# Altium footprint library Analog Devices MEMS Inertial Sensors.PcbLib: 29 footprints (part 2 of 2)
Each footprint in its own frame and in the unit in brackets; x right, y up, seen from the top. Pads: shape width x height; smd on the part's side, far side on the other; paste and mask are expansions set on the pad; w line width, h text height; cw(c..) or ccw(c..) is an arc to the next point about the centre after c.
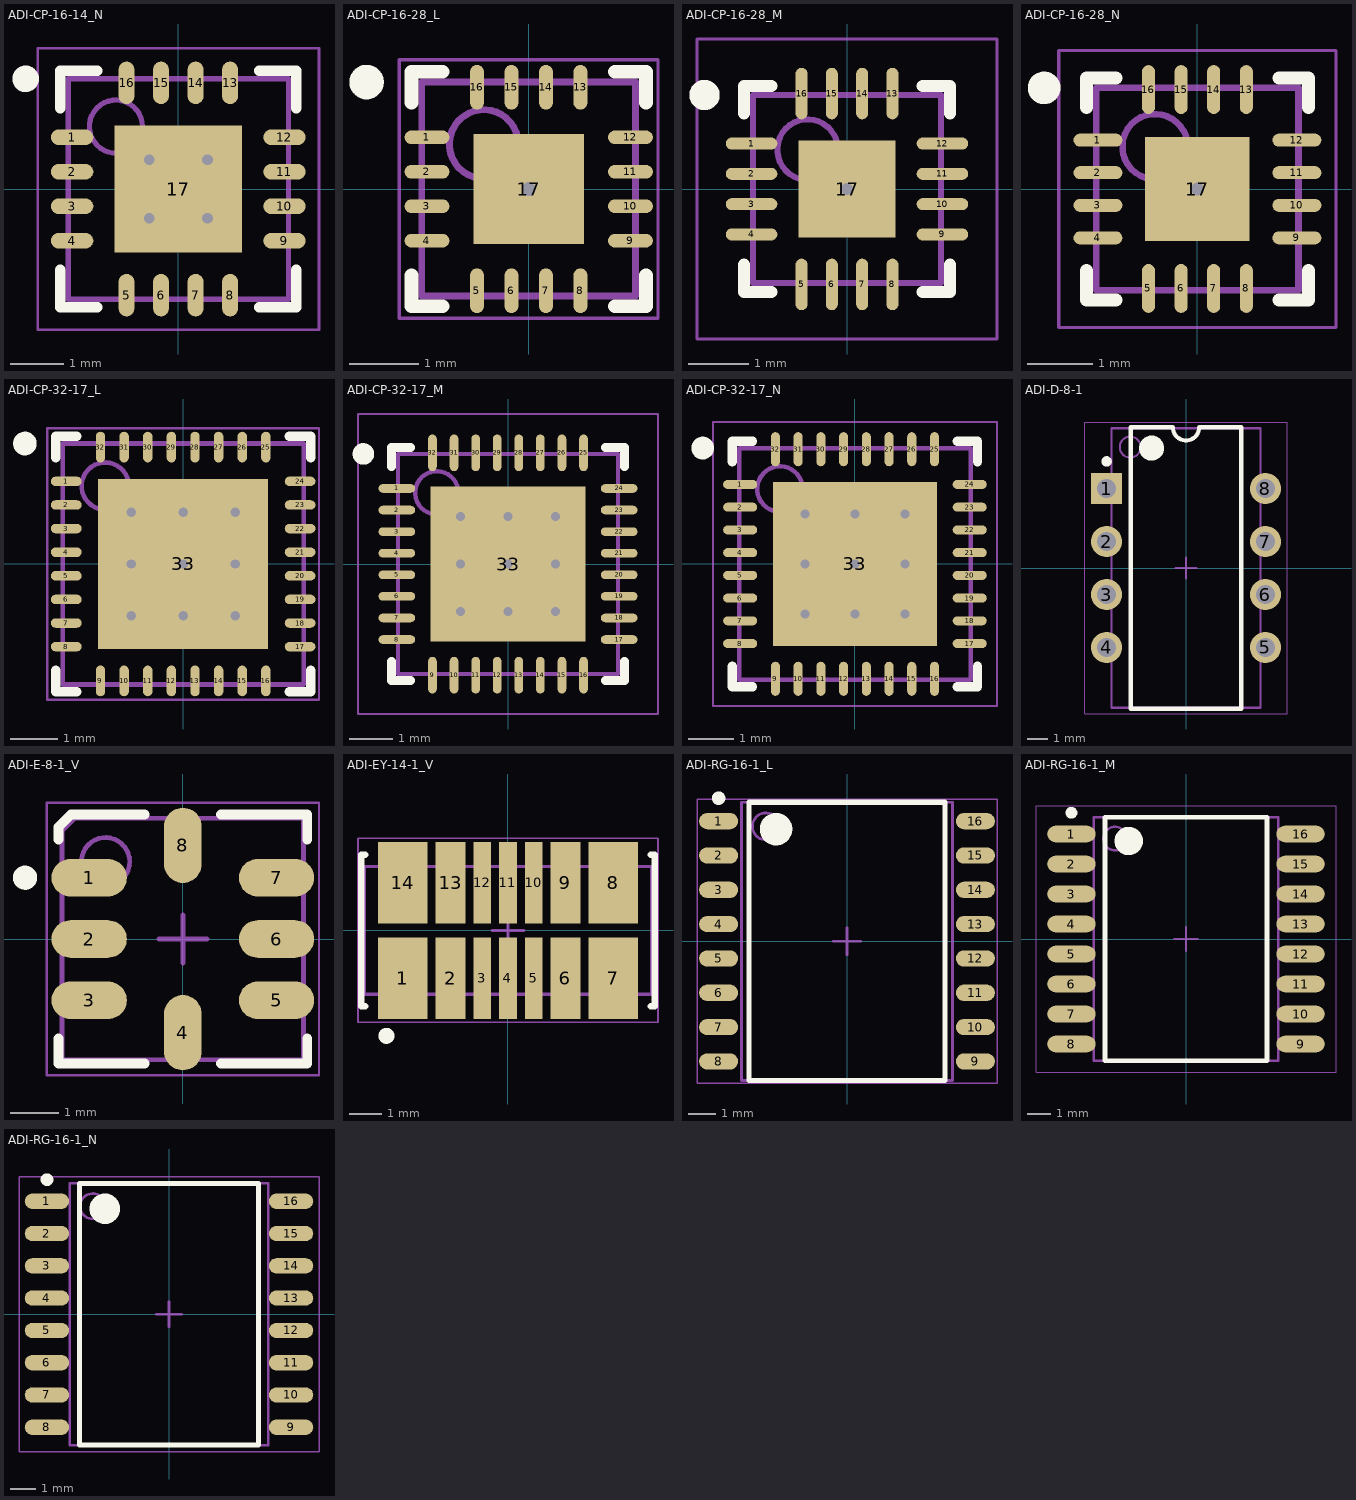
[diagram p1: the footprints below, top view; thin cyan lines are the x and y axes]

## ADI-CP-16-14_N [mm] "QFN, 16-Leads, Body 4x4mm, Pitch 0.65mm, Thermal Pad 2.4x2.4mm, IPC Medium Density"
height 1.5
pads (17):
  oval 0.8x0.3 smd: 1(-2,0.975) 2(-2,0.325) 3(-2,-0.325) 4(-2,-0.975) 9(2,-0.975) 10(2,-0.325) 11(2,0.325) 12(2,0.975)
  oval 0.3x0.8 smd: 5(-0.975,-2) 6(-0.325,-2) 7(0.325,-2) 8(0.975,-2) 13(0.975,2) 14(0.325,2) 15(-0.325,2) 16(-0.975,2)
  rect 2.4x2.4 smd: 17(0,0)
via -0.55,0.55 diameter 0.5 hole 0.2
via 0.55,0.55 diameter 0.5 hole 0.2
via -0.55,-0.55 diameter 0.5 hole 0.2
via 0.55,-0.55 diameter 0.5 hole 0.2
Top Overlay:
  circle w0.25: c-2.875,2.075 r0.125
  lines w0.2: -2.225,-1.525 -2.225,-2.225 -1.525,-2.225 ; -2.225,1.525 -2.225,2.225 -1.525,2.225 ; 1.525,-2.225 2.225,-2.225 2.225,-1.525 ; 1.525,2.225 2.225,2.225 2.225,1.525
Mechanical 13:
  circle w0.1: c-1.175,1.175 r0.5
  lines w0.1: -2.075,-2.075 -2.075,2.075 2.075,2.075 2.075,-2.075 -2.075,-2.075
Mechanical 15:
  lines w0.05: -2.65,-2.65 -2.65,2.65 2.65,2.65 2.65,-2.65 -2.65,-2.65
  lines w0.1: -0.5,0 0.5,0 ; 0,-0.5 0,0.5
3D body: height 1.5, standoff 0, extent -2.075,-2.075 2.075,2.075

## ADI-CP-16-28_L [mm] "QFN, 16-Leads, Body 3x3mm, Pitch 0.5mm, Thermal Pad 1.6x1.6mm, IPC High Density"
height 1.5
pads (17):
  oval 0.65x0.2 smd: 1(-1.475,0.75) 2(-1.475,0.25) 3(-1.475,-0.25) 4(-1.475,-0.75) 9(1.475,-0.75) 10(1.475,-0.25) 11(1.475,0.25) 12(1.475,0.75)
  oval 0.2x0.65 smd: 5(-0.75,-1.475) 6(-0.25,-1.475) 7(0.25,-1.475) 8(0.75,-1.475) 13(0.75,1.475) 14(0.25,1.475) 15(-0.25,1.475) 16(-0.75,1.475)
  rect 1.6x1.6 smd: 17(0,0)
via 0,0 diameter 0.5 hole 0.2
Top Overlay:
  circle w0.25: c-2.35,1.55 r0.125
  lines w0.2: -1.7,-1.25 -1.7,-1.7 -1.25,-1.7 ; -1.7,1.25 -1.7,1.7 -1.25,1.7 ; 1.25,-1.7 1.7,-1.7 1.7,-1.25 ; 1.25,1.7 1.7,1.7 1.7,1.25
Mechanical 13:
  circle w0.1: c-0.65,0.65 r0.5
  lines w0.1: -1.55,-1.55 -1.55,1.55 1.55,1.55 1.55,-1.55 -1.55,-1.55
Mechanical 15:
  lines w0.05: -1.875,-1.875 -1.875,1.875 1.875,1.875 1.875,-1.875 -1.875,-1.875
  lines w0.1: -0.5,0 0.5,0 ; 0,-0.5 0,0.5
3D body: height 1.5, standoff 0, extent -1.55,-1.55 1.55,1.55

## ADI-CP-16-28_M [mm] "QFN, 16-Leads, Body 3x3mm, Pitch 0.5mm, Thermal Pad 1.6x1.6mm, IPC Low Density"
height 1.5
pads (17):
  oval 0.85x0.2 smd: 1(-1.575,0.75) 2(-1.575,0.25) 3(-1.575,-0.25) 4(-1.575,-0.75) 9(1.575,-0.75) 10(1.575,-0.25) 11(1.575,0.25) 12(1.575,0.75)
  oval 0.2x0.85 smd: 5(-0.75,-1.575) 6(-0.25,-1.575) 7(0.25,-1.575) 8(0.75,-1.575) 13(0.75,1.575) 14(0.25,1.575) 15(-0.25,1.575) 16(-0.75,1.575)
  rect 1.6x1.6 smd: 17(0,0)
via 0,0 diameter 0.5 hole 0.2
Top Overlay:
  circle w0.25: c-2.35,1.55 r0.125
  lines w0.2: -1.7,-1.25 -1.7,-1.7 -1.25,-1.7 ; -1.7,1.25 -1.7,1.7 -1.25,1.7 ; 1.25,-1.7 1.7,-1.7 1.7,-1.25 ; 1.25,1.7 1.7,1.7 1.7,1.25
Mechanical 13:
  circle w0.1: c-0.65,0.65 r0.5
  lines w0.1: -1.55,-1.55 -1.55,1.55 1.55,1.55 1.55,-1.55 -1.55,-1.55
Mechanical 15:
  lines w0.05: -2.475,-2.475 -2.475,2.475 2.475,2.475 2.475,-2.475 -2.475,-2.475
  lines w0.1: -0.5,0 0.5,0 ; 0,-0.5 0,0.5
3D body: height 1.5, standoff 0, extent -1.55,-1.55 1.55,1.55

## ADI-CP-16-28_N [mm] "QFN, 16-Leads, Body 3x3mm, Pitch 0.5mm, Thermal Pad 1.6x1.6mm, IPC Medium Density"
height 1.5
pads (17):
  oval 0.75x0.2 smd: 1(-1.525,0.75) 2(-1.525,0.25) 3(-1.525,-0.25) 4(-1.525,-0.75) 9(1.525,-0.75) 10(1.525,-0.25) 11(1.525,0.25) 12(1.525,0.75)
  oval 0.2x0.75 smd: 5(-0.75,-1.525) 6(-0.25,-1.525) 7(0.25,-1.525) 8(0.75,-1.525) 13(0.75,1.525) 14(0.25,1.525) 15(-0.25,1.525) 16(-0.75,1.525)
  rect 1.6x1.6 smd: 17(0,0)
via 0,0 diameter 0.5 hole 0.2
Top Overlay:
  circle w0.25: c-2.35,1.55 r0.125
  lines w0.2: -1.7,-1.25 -1.7,-1.7 -1.25,-1.7 ; -1.7,1.25 -1.7,1.7 -1.25,1.7 ; 1.25,-1.7 1.7,-1.7 1.7,-1.25 ; 1.25,1.7 1.7,1.7 1.7,1.25
Mechanical 13:
  circle w0.1: c-0.65,0.65 r0.5
  lines w0.1: -1.55,-1.55 -1.55,1.55 1.55,1.55 1.55,-1.55 -1.55,-1.55
Mechanical 15:
  lines w0.05: -2.125,-2.125 -2.125,2.125 2.125,2.125 2.125,-2.125 -2.125,-2.125
  lines w0.1: -0.5,0 0.5,0 ; 0,-0.5 0,0.5
3D body: height 1.5, standoff 0, extent -1.55,-1.55 1.55,1.55

## ADI-CP-32-17_L [mm] "QFN, 32-Leads, Body 5x5mm, Pitch 0.5mm, Thermal Pad 3.6x3.6mm, IPC High Density"
height 1.55
pads (33):
  oval 0.65x0.2 smd: 1(-2.475,1.75) 2(-2.475,1.25) 3(-2.475,0.75) 4(-2.475,0.25) 5(-2.475,-0.25) 6(-2.475,-0.75) 7(-2.475,-1.25) 8(-2.475,-1.75) 17(2.475,-1.75) 18(2.475,-1.25) 19(2.475,-0.75) 20(2.475,-0.25) 21(2.475,0.25) 22(2.475,0.75) 23(2.475,1.25) 24(2.475,1.75)
  oval 0.2x0.65 smd: 9(-1.75,-2.475) 10(-1.25,-2.475) 11(-0.75,-2.475) 12(-0.25,-2.475) 13(0.25,-2.475) 14(0.75,-2.475) 15(1.25,-2.475) 16(1.75,-2.475) 25(1.75,2.475) 26(1.25,2.475) 27(0.75,2.475) 28(0.25,2.475) 29(-0.25,2.475) 30(-0.75,2.475) 31(-1.25,2.475) 32(-1.75,2.475)
  rect 3.6x3.6 smd: 33(0,0)
via -1.1,1.1 diameter 0.5 hole 0.2
via 0,1.1 diameter 0.5 hole 0.2
via 1.1,1.1 diameter 0.5 hole 0.2
via -1.1,0 diameter 0.5 hole 0.2
via 0,0 diameter 0.5 hole 0.2
via 1.1,0 diameter 0.5 hole 0.2
via -1.1,-1.1 diameter 0.5 hole 0.2
via 0,-1.1 diameter 0.5 hole 0.2
via 1.1,-1.1 diameter 0.5 hole 0.2
Top Overlay:
  circle w0.25: c-3.35,2.55 r0.125
  lines w0.2: -2.7,-2.25 -2.7,-2.7 -2.25,-2.7 ; -2.7,2.25 -2.7,2.7 -2.25,2.7 ; 2.25,-2.7 2.7,-2.7 2.7,-2.25 ; 2.25,2.7 2.7,2.7 2.7,2.25
Mechanical 13:
  circle w0.1: c-1.65,1.65 r0.5
  lines w0.1: -2.55,-2.55 -2.55,2.55 2.55,2.55 2.55,-2.55 -2.55,-2.55
Mechanical 15:
  lines w0.05: -2.875,-2.875 -2.875,2.875 2.875,2.875 2.875,-2.875 -2.875,-2.875
  lines w0.1: -0.5,0 0.5,0 ; 0,-0.5 0,0.5
3D body: height 1.55, standoff 0, extent -2.55,-2.55 2.55,2.55

## ADI-CP-32-17_M [mm] "QFN, 32-Leads, Body 5x5mm, Pitch 0.5mm, Thermal Pad 3.6x3.6mm, IPC Low Density"
height 1.55
pads (33):
  oval 0.85x0.2 smd: 1(-2.575,1.75) 2(-2.575,1.25) 3(-2.575,0.75) 4(-2.575,0.25) 5(-2.575,-0.25) 6(-2.575,-0.75) 7(-2.575,-1.25) 8(-2.575,-1.75) 17(2.575,-1.75) 18(2.575,-1.25) 19(2.575,-0.75) 20(2.575,-0.25) 21(2.575,0.25) 22(2.575,0.75) 23(2.575,1.25) 24(2.575,1.75)
  oval 0.2x0.85 smd: 9(-1.75,-2.575) 10(-1.25,-2.575) 11(-0.75,-2.575) 12(-0.25,-2.575) 13(0.25,-2.575) 14(0.75,-2.575) 15(1.25,-2.575) 16(1.75,-2.575) 25(1.75,2.575) 26(1.25,2.575) 27(0.75,2.575) 28(0.25,2.575) 29(-0.25,2.575) 30(-0.75,2.575) 31(-1.25,2.575) 32(-1.75,2.575)
  rect 3.6x3.6 smd: 33(0,0)
via -1.1,1.1 diameter 0.5 hole 0.2
via 0,1.1 diameter 0.5 hole 0.2
via 1.1,1.1 diameter 0.5 hole 0.2
via -1.1,0 diameter 0.5 hole 0.2
via 0,0 diameter 0.5 hole 0.2
via 1.1,0 diameter 0.5 hole 0.2
via -1.1,-1.1 diameter 0.5 hole 0.2
via 0,-1.1 diameter 0.5 hole 0.2
via 1.1,-1.1 diameter 0.5 hole 0.2
Top Overlay:
  circle w0.25: c-3.35,2.55 r0.125
  lines w0.2: -2.7,-2.25 -2.7,-2.7 -2.25,-2.7 ; -2.7,2.25 -2.7,2.7 -2.25,2.7 ; 2.25,-2.7 2.7,-2.7 2.7,-2.25 ; 2.25,2.7 2.7,2.7 2.7,2.25
Mechanical 13:
  circle w0.1: c-1.65,1.65 r0.5
  lines w0.1: -2.55,-2.55 -2.55,2.55 2.55,2.55 2.55,-2.55 -2.55,-2.55
Mechanical 15:
  lines w0.05: -3.475,-3.475 -3.475,3.475 3.475,3.475 3.475,-3.475 -3.475,-3.475
  lines w0.1: -0.5,0 0.5,0 ; 0,-0.5 0,0.5
3D body: height 1.55, standoff 0, extent -2.55,-2.55 2.55,2.55

## ADI-CP-32-17_N [mm] "QFN, 32-Leads, Body 5x5mm, Pitch 0.5mm, Thermal Pad 3.6x3.6mm, IPC Medium Density"
height 1.55
pads (33):
  oval 0.75x0.2 smd: 1(-2.525,1.75) 2(-2.525,1.25) 3(-2.525,0.75) 4(-2.525,0.25) 5(-2.525,-0.25) 6(-2.525,-0.75) 7(-2.525,-1.25) 8(-2.525,-1.75) 17(2.525,-1.75) 18(2.525,-1.25) 19(2.525,-0.75) 20(2.525,-0.25) 21(2.525,0.25) 22(2.525,0.75) 23(2.525,1.25) 24(2.525,1.75)
  oval 0.2x0.75 smd: 9(-1.75,-2.525) 10(-1.25,-2.525) 11(-0.75,-2.525) 12(-0.25,-2.525) 13(0.25,-2.525) 14(0.75,-2.525) 15(1.25,-2.525) 16(1.75,-2.525) 25(1.75,2.525) 26(1.25,2.525) 27(0.75,2.525) 28(0.25,2.525) 29(-0.25,2.525) 30(-0.75,2.525) 31(-1.25,2.525) 32(-1.75,2.525)
  rect 3.6x3.6 smd: 33(0,0)
via -1.1,1.1 diameter 0.5 hole 0.2
via 0,1.1 diameter 0.5 hole 0.2
via 1.1,1.1 diameter 0.5 hole 0.2
via -1.1,0 diameter 0.5 hole 0.2
via 0,0 diameter 0.5 hole 0.2
via 1.1,0 diameter 0.5 hole 0.2
via -1.1,-1.1 diameter 0.5 hole 0.2
via 0,-1.1 diameter 0.5 hole 0.2
via 1.1,-1.1 diameter 0.5 hole 0.2
Top Overlay:
  circle w0.25: c-3.35,2.55 r0.125
  lines w0.2: -2.7,-2.25 -2.7,-2.7 -2.25,-2.7 ; -2.7,2.25 -2.7,2.7 -2.25,2.7 ; 2.25,-2.7 2.7,-2.7 2.7,-2.25 ; 2.25,2.7 2.7,2.7 2.7,2.25
Mechanical 13:
  circle w0.1: c-1.65,1.65 r0.5
  lines w0.1: -2.55,-2.55 -2.55,2.55 2.55,2.55 2.55,-2.55 -2.55,-2.55
Mechanical 15:
  lines w0.05: -3.125,-3.125 -3.125,3.125 3.125,3.125 3.125,-3.125 -3.125,-3.125
  lines w0.1: -0.5,0 0.5,0 ; 0,-0.5 0,0.5
3D body: height 1.55, standoff 0, extent -2.55,-2.55 2.55,2.55

## ADI-D-8-1 [mm] "DIP, 8-Leads, Body 13.208x7.366mm, Pitch 2.54mm"
height 3.31
pads (8):
  rect 1.5x1.5 hole 0.9: 1(-3.81,3.81)
  round 1.5 hole 0.9: 2(-3.81,1.27) 3(-3.81,-1.27) 4(-3.81,-3.81) 5(3.81,-3.81) 6(3.81,-1.27) 7(3.81,1.27) 8(3.81,3.81)
Top Overlay:
  circle w0.6: c-1.65,5.75 r0.3
  circle w0.25: c-3.81,5.11 r0.125
  lines w0.2: -2.65,-6.75 2.65,-6.75 2.65,6.75 0.635,6.75 cw(c0,6.75) -0.635,6.75 -2.65,6.75 -2.65,-6.75
Mechanical 13:
  circle w0.1: c-2.675,5.8 r0.5
  lines w0.1: -3.575,-6.7 3.575,-6.7 3.575,6.7 -3.575,6.7 -3.575,-6.7
Mechanical 15:
  lines w0.05: -4.85,-7 4.85,-7 4.85,7 -4.85,7 -4.85,-7
  lines w0.1: -0.5,0 0.5,0 ; 0,-0.5 0,0.5
3D body: height 3.31, standoff 0.64, extent -3.575,-6.7 3.575,6.7
3D body: height 0, standoff -1.6, extent 3.675,3.45 3.945,4.17
3D body: height 2.11, standoff 1.83, extent 3.575,3.31 3.945,4.31
3D body: height 1.84, standoff 0, extent 3.675,3.31 3.945,4.31
3D body: height 0, standoff -1.6, extent 3.675,0.91 3.945,1.63
3D body: height 2.11, standoff 1.83, extent 3.575,0.77 3.945,1.77
3D body: height 1.84, standoff 0, extent 3.675,0.77 3.945,1.77
3D body: height 0, standoff -1.6, extent 3.675,-1.63 3.945,-0.91
3D body: height 2.11, standoff 1.83, extent 3.575,-1.77 3.945,-0.77
3D body: height 1.84, standoff 0, extent 3.675,-1.77 3.945,-0.77
3D body: height 0, standoff -1.6, extent 3.675,-4.17 3.945,-3.45
3D body: height 2.11, standoff 1.83, extent 3.575,-4.31 3.945,-3.31
3D body: height 1.84, standoff 0, extent 3.675,-4.31 3.945,-3.31
3D body: height 0, standoff -1.6, extent -3.945,-4.17 -3.675,-3.45
3D body: height 2.11, standoff 1.83, extent -3.945,-4.31 -3.575,-3.31
3D body: height 1.84, standoff 0, extent -3.945,-4.31 -3.675,-3.31
3D body: height 0, standoff -1.6, extent -3.945,-1.63 -3.675,-0.91
3D body: height 2.11, standoff 1.83, extent -3.945,-1.77 -3.575,-0.77
3D body: height 1.84, standoff 0, extent -3.945,-1.77 -3.675,-0.77
3D body: height 0, standoff -1.6, extent -3.945,0.91 -3.675,1.63
3D body: height 2.11, standoff 1.83, extent -3.945,0.77 -3.575,1.77
3D body: height 1.84, standoff 0, extent -3.945,0.77 -3.675,1.77
3D body: height 0, standoff -1.6, extent -3.945,3.45 -3.675,4.17
3D body: height 2.11, standoff 1.83, extent -3.945,3.31 -3.575,4.31
3D body: height 1.84, standoff 0, extent -3.945,3.31 -3.675,4.31

## ADI-E-8-1_V [mm] "LCC, 8-Leads, Body 5x5mm, Pitch 1.27mm"
height 2.21
pads (8):
  oval 1.56x0.78 smd: 1(-1.94,1.27) 2(-1.94,0) 3(-1.94,-1.27) 5(1.94,-1.27) 6(1.94,0) 7(1.94,1.27)
  oval 0.78x1.56 smd: 4(0,-1.94) 8(0,1.94)
Top Overlay:
  circle w0.25: c-3.27,1.27 r0.125
  lines w0.2: -2.578,-2.06 -2.578,-2.578 -0.79,-2.578 ; -2.578,2.06 -2.578,2.319 -2.319,2.578 -0.79,2.578 ; 0.79,-2.578 2.578,-2.578 2.578,-2.06 ; 0.79,2.578 2.578,2.578 2.578,2.06
Mechanical 13:
  circle w0.1: c-1.602,1.602 r0.5
  lines w0.1: -2.502,-2.502 2.502,-2.502 2.502,2.502 -2.243,2.502 -2.502,2.243 -2.502,-2.502
Mechanical 15:
  lines w0.05: -2.82,-2.82 2.82,-2.82 2.82,2.82 -2.82,2.82 -2.82,-2.82
  lines w0.1: -0.5,0 0.5,0 ; 0,-0.5 0,0.5
3D body: height 2.21, standoff 0, extent -2.502,-2.502 2.502,2.502

## ADI-EY-14-1_V [mm] "LCC, 14-Leads, Body 4x9mm"
height 9.15
pads (14):
  rect 1.55x2.55 smd: 1(-3.3,-1.5) 7(3.3,-1.5) 8(3.3,1.5) 14(-3.3,1.5)
  rect 0.95x2.55 smd: 2(-1.8,-1.5) 6(1.8,-1.5) 9(1.8,1.5) 13(-1.8,1.5)
  rect 0.55x2.55 smd: 3(-0.8,-1.5) 4(0,-1.5) 5(0.8,-1.5) 10(0.8,1.5) 11(0,1.5) 12(-0.8,1.5)
Top Overlay:
  circle w0.25: c-3.808,-3.302 r0.125
  lines w0.2: -4.475,-2.375 -4.6,-2.375 -4.6,-2 -4.6,2 -4.6,2.375 -4.475,2.375 ; 4.475,-2.375 4.6,-2.375 ; 4.475,2.375 4.6,2.375 4.6,2 4.6,-2 4.6,-2.375 ; 4.6,-2.375 4.6,-2.375
Mechanical 13:
  lines w0.1: -4.5,-2 4.5,-2 4.5,2 -4.5,2 -4.5,-2
Mechanical 15:
  lines w0.05: -4.7,-2.875 -4.7,-1.992 -4.7,2.008 -4.7,2.891 -4.191,2.891 3.556,2.891 4.7,2.891 4.7,2.008 4.7,-1.992 4.7,-2.875 4.064,-2.875 -4.445,-2.875 -4.7,-2.875
  lines w0.1: -0.5,0 0.5,0 ; 0,-0.492 0,0.508
3D body: height 8.55, standoff 1.17, extent -4,-2.286 4,-2.032
3D body: height 9.15, standoff 0, extent -4.5,-2 4.5,2
3D body: height 4.46, standoff 1.18, extent -4.064,1.905 -2.54,2.159
3D body: height 5.11, standoff 4.61, extent -4.064,1.905 -1.524,2.159
3D body: height 4.2, standoff 1.18, extent -2.302,1.905 -1.286,2.159
3D body: height 5.31, standoff 5.11, extent -1.778,1.905 -1.524,2.159
3D body: height 4.2, standoff 1.18, extent 1.285,1.905 2.301,2.159
3D body: height 5.31, standoff 5.11, extent -2.032,1.905 -1.905,2.159
3D body: height 4.46, standoff 1.18, extent 2.54,1.905 4.064,2.159
3D body: height 5.11, standoff 4.61, extent 1.524,1.905 4.064,2.159
3D body: height 4.2, standoff 1.18, extent -1.134,1.905 -0.499,2.159
3D body: height 4.2, standoff 1.18, extent -0.334,1.905 0.301,2.159
3D body: height 4.2, standoff 1.18, extent 0.466,1.905 1.101,2.159
3D body: height 4.82, standoff 4.3, extent 0.466,1.905 1.101,2.159
3D body: height 8.54, standoff 5.53, extent 0.466,1.905 1.101,2.159
3D body: height 8.54, standoff 5.53, extent -0.334,1.905 0.301,2.159
3D body: height 8.54, standoff 5.53, extent -1.134,1.905 -0.499,2.159
3D body: height 8.54, standoff 5.27, extent 2.54,1.905 4.064,2.159
3D body: height 8.54, standoff 5.53, extent 1.285,1.905 2.301,2.159
3D body: height 8.54, standoff 5.53, extent -2.302,1.905 -1.286,2.159
3D body: height 8.54, standoff 5.27, extent -4.064,1.905 -2.54,2.159
3D body: height 5.43, standoff 4.9, extent 0.466,1.905 1.101,2.159
3D body: height 5.43, standoff 4.9, extent -0.334,1.905 0.301,2.159
3D body: height 4.82, standoff 4.3, extent -0.334,1.905 0.301,2.159
3D body: height 5.43, standoff 4.9, extent -1.134,1.905 -0.499,2.159
3D body: height 4.82, standoff 4.3, extent -1.134,1.905 -0.499,2.159

## ADI-RG-16-1_L [mm] "SOIC, 16-Leads, Body 10.3x7.8mm, Pitch 1.27mm, IPC High Density"
height 3.73
pads (16):
  oval 1.45x0.6 smd: 1(-4.75,4.445) 2(-4.75,3.175) 3(-4.75,1.905) 4(-4.75,0.635) 5(-4.75,-0.635) 6(-4.75,-1.905) 7(-4.75,-3.175) 8(-4.75,-4.445) 9(4.75,-4.445) 10(4.75,-3.175) 11(4.75,-1.905) 12(4.75,-0.635) 13(4.75,0.635) 14(4.75,1.905) 15(4.75,3.175) 16(4.75,4.445)
Top Overlay:
  circle w0.25: c-4.75,5.295 r0.125
  circle w0.6: c-2.625,4.15 r0.3
  lines w0.2: -3.625,-5.15 -3.625,5.15 3.625,5.15 3.625,-5.15 -3.625,-5.15
Mechanical 13:
  circle w0.1: c-3,4.25 r0.5
  lines w0.1: -3.9,-5.15 -3.9,5.15 3.9,5.15 3.9,-5.15 -3.9,-5.15
Mechanical 15:
  lines w0.05: -5.55,-5.25 -5.55,5.25 5.55,5.25 5.55,-5.25 -5.55,-5.25
  lines w0.1: -0.5,0 0.5,0 ; 0,-0.5 0,0.5
3D body: height 3.73, standoff 0.08, extent -3.9,-5.15 3.9,5.15

## ADI-RG-16-1_M [mm] "SOIC, 16-Leads, Body 10.3x7.8mm, Pitch 1.27mm, IPC Low Density"
height 3.73
pads (16):
  oval 2.05x0.7 smd: 1(-4.85,4.445) 2(-4.85,3.175) 3(-4.85,1.905) 4(-4.85,0.635) 5(-4.85,-0.635) 6(-4.85,-1.905) 7(-4.85,-3.175) 8(-4.85,-4.445) 9(4.85,-4.445) 10(4.85,-3.175) 11(4.85,-1.905) 12(4.85,-0.635) 13(4.85,0.635) 14(4.85,1.905) 15(4.85,3.175) 16(4.85,4.445)
Top Overlay:
  circle w0.25: c-4.85,5.345 r0.125
  circle w0.6: c-2.425,4.15 r0.3
  lines w0.2: -3.425,-5.15 -3.425,5.15 3.425,5.15 3.425,-5.15 -3.425,-5.15
Mechanical 13:
  circle w0.1: c-3,4.25 r0.5
  lines w0.1: -3.9,-5.15 -3.9,5.15 3.9,5.15 3.9,-5.15 -3.9,-5.15
Mechanical 15:
  lines w0.05: -6.35,-5.65 -6.35,5.65 6.35,5.65 6.35,-5.65 -6.35,-5.65
  lines w0.1: -0.5,0 0.5,0 ; 0,-0.5 0,0.5
3D body: height 3.73, standoff 0.08, extent -3.9,-5.15 3.9,5.15

## ADI-RG-16-1_N [mm] "SOIC, 16-Leads, Body 10.3x7.8mm, Pitch 1.27mm, IPC Medium Density"
height 3.73
pads (16):
  oval 1.75x0.6 smd: 1(-4.8,4.445) 2(-4.8,3.175) 3(-4.8,1.905) 4(-4.8,0.635) 5(-4.8,-0.635) 6(-4.8,-1.905) 7(-4.8,-3.175) 8(-4.8,-4.445) 9(4.8,-4.445) 10(4.8,-3.175) 11(4.8,-1.905) 12(4.8,-0.635) 13(4.8,0.635) 14(4.8,1.905) 15(4.8,3.175) 16(4.8,4.445)
Top Overlay:
  circle w0.25: c-4.8,5.295 r0.125
  circle w0.6: c-2.525,4.15 r0.3
  lines w0.2: -3.525,-5.15 -3.525,5.15 3.525,5.15 3.525,-5.15 -3.525,-5.15
Mechanical 13:
  circle w0.1: c-3,4.25 r0.5
  lines w0.1: -3.9,-5.15 -3.9,5.15 3.9,5.15 3.9,-5.15 -3.9,-5.15
Mechanical 15:
  lines w0.05: -5.9,-5.4 -5.9,5.4 5.9,5.4 5.9,-5.4 -5.9,-5.4
  lines w0.1: -0.5,0 0.5,0 ; 0,-0.5 0,0.5
3D body: height 3.73, standoff 0.08, extent -3.9,-5.15 3.9,5.15